# Altium footprint library P_HEADER_1x5_2.54_ANGLE.PcbLib: 1 footprints
Each footprint in its own frame and in the unit in brackets; x right, y up, seen from the top. Pads: shape width x height; smd on the part's side, far side on the other; paste and mask are expansions set on the pad; w line width, h text height; cw(c..) or ccw(c..) is an arc to the next point about the centre after c.
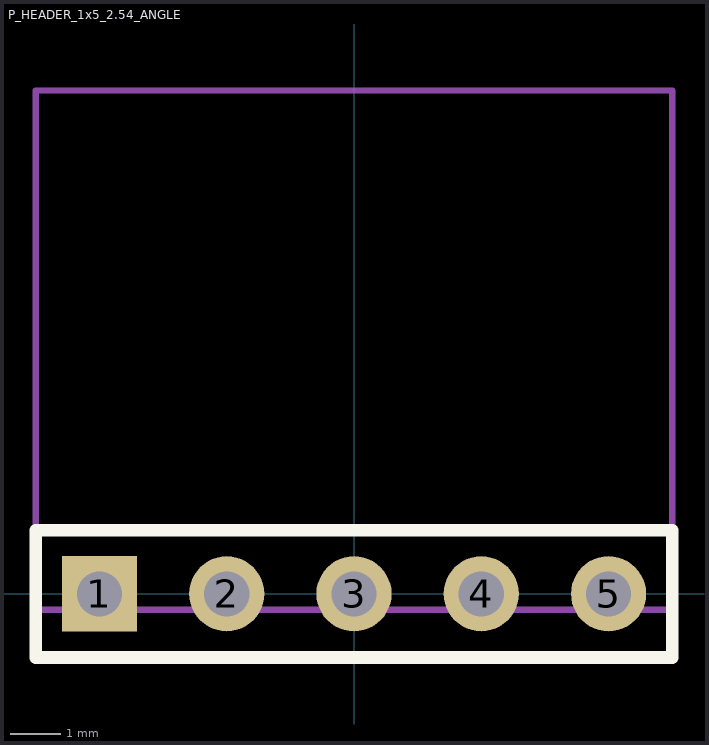
[diagram p0: the footprint, top view; thin cyan lines are the x and y axes]

## P_HEADER_1x5_2.54_ANGLE [mm] "Connector; Header; 6 Position, Male, Angle"
pads (5):
  rect 1.5x1.5 hole 0.9: 1(-5.08,0)
  round 1.5 hole 0.9: 2(-2.54,0) 3(0,0) 4(2.54,0) 5(5.08,0)
Top Overlay:
  lines w0.254: -6.35,-1.27 6.35,-1.27 6.35,1.27 -6.35,1.27 -6.35,-1.27
Mechanical 13:
  lines w0.127: -6.35,-0.32 -6.35,10.044 6.35,10.044 6.35,-0.32 -6.35,-0.32
Mechanical 15:
  lines w0.127: -0.254,0 0.254,0 ; 0,-0.254 0,0.254 ; -6.35,-1.27 -6.35,10.044 6.35,10.044 6.35,-1.27 -6.35,-1.27
3D body "61300511021 (rev1).step": height 2.57, standoff -2.97, extent -6.35,-0.32 6.35,10.04